# Altium schematic symbol library 1kOHM.SCHLIB: 1 symbol
Pins are listed as number, name and electrical type; pins without a type are passive.

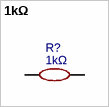
[diagram p0: symbol 1kΩ]

## 1kΩ
designator R?
Manufacturer: YAGEO(国巨); Manufacturer Part: RC0805JR-071KL; nameAlias: Value; Supplier: LCSC; Supplier Part: C100046; JLCPCB Part Class: Extended Part; spicePre: R; spiceSymbolName: RC0805JR-071KL
footprint R0805
pins: 1, 2